# EAGLE library part AS-ITM-00309 (library tinycircuits)
ACCEL 100-400G I2C/SPI 16LGA
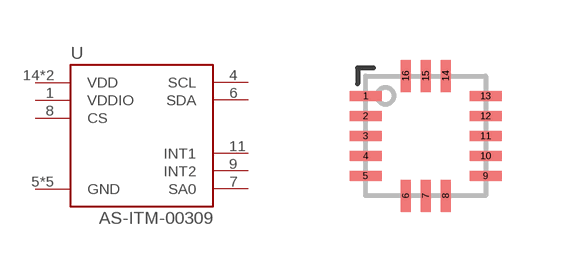
[diagram p122: symbol with the pads of H3LIS331DL; footprint H3LIS331DL]

Designator prefix U

## AS-ITM-00309 (PARTNO: AS-ITM-00309; VALUE: H3LIS331DL)  [H3LIS331DL]
1  VDDIO
4  SCL
5  GND
6  SDA
7  SA0
8  CS
9  INT2
10  GND
11  INT1
12  GND
13  GND
14  VDD
15  VDD
16  GND

## Footprint H3LIS331DL (pad centres in mm)
smd 0.8 x 0.25: 1 -1.5,1; 2 -1.5,0.5; 3 -1.5,0; 4 -1.5,-0.5; 5 -1.5,-1; 9 1.5,-1; 10 1.5,-0.5; 11 1.5,0; 12 1.5,0.5; 13 1.5,1
smd 0.25 x 0.8: 6 -0.5,-1.5; 7 0,-1.5; 8 0.5,-1.5; 14 0.5,1.5; 15 0,1.5; 16 -0.5,1.5